# Altium schematic symbol library Tx_board.SchLib: 57 symbols (part 1 of 3)
Pins are listed as number, name and electrical type; pins without a type are passive.

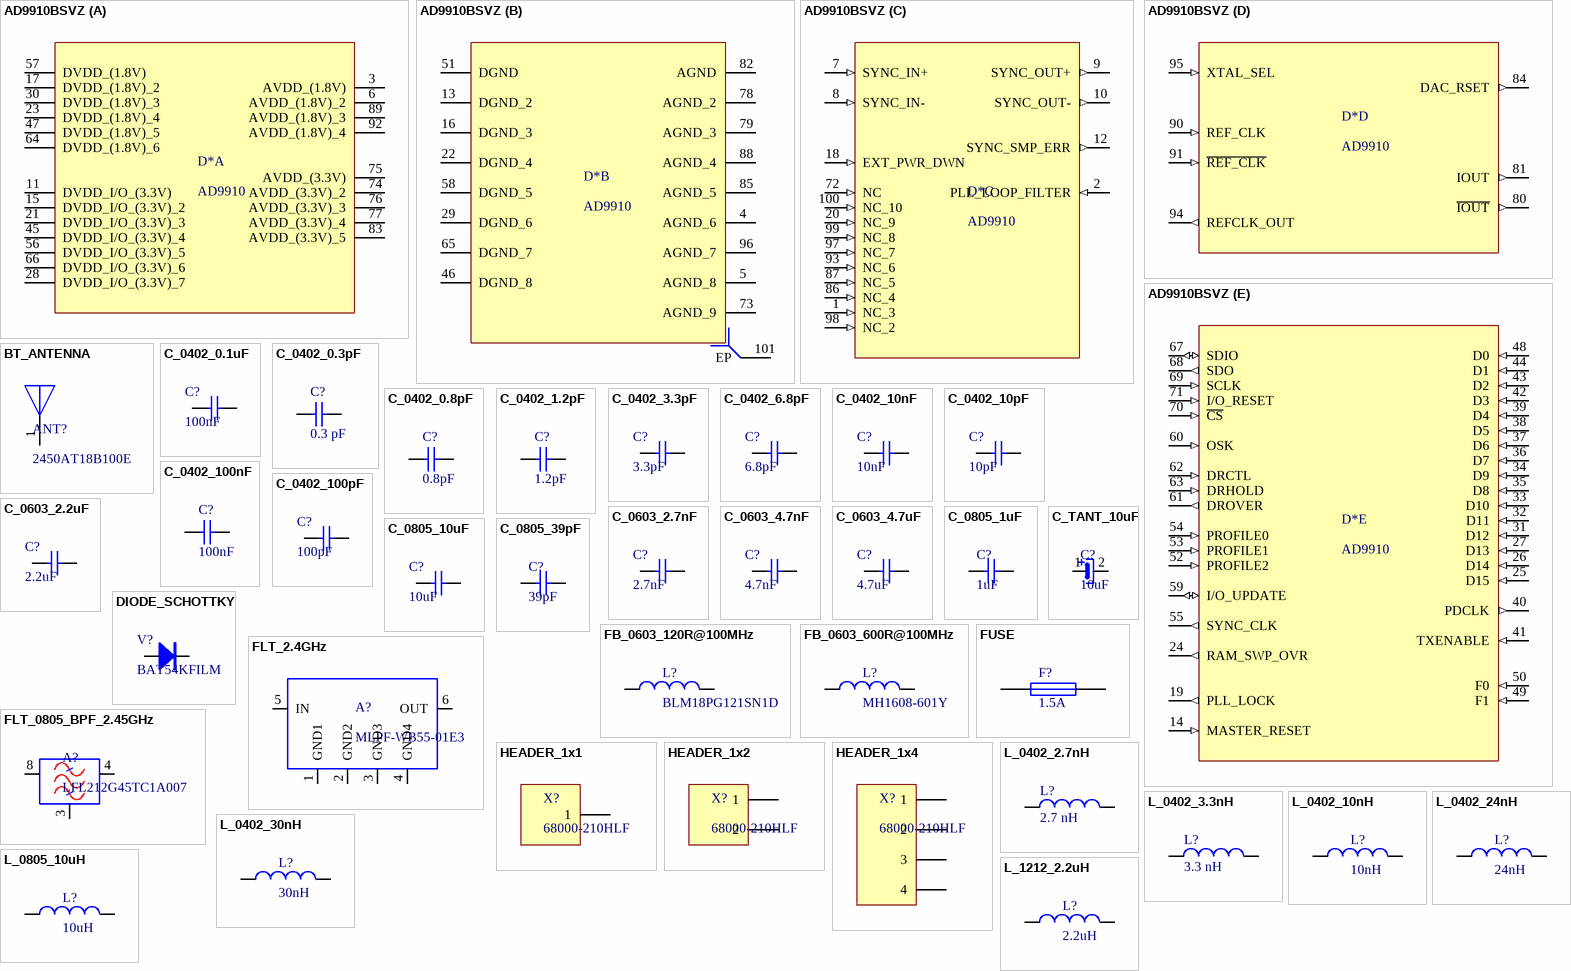
[diagram p0: symbols AD9910BSVZ to L_1212_2.2uH]

## AD9910BSVZ
designator D*, comment AD9910
ANALOG DEVICES - AD9910BSVZ - Direct Digital Synthesizer, 1 GSPS. 14 Bit, 3.3 V, TQFP-100; Min Supply Voltage: 1.71V; Max Supply Voltage: 1.89V; Number of Converters: 1; Resolution: 14b; Frequency: 1GHz; Max Supply Current: 110mA; Operating Supply Voltage: 1.8V; Nominal Supply Current: 29mA; Conversion Rate: 1000000KS/s; Supplier 1: Digi-Key; Supplier Part Number 1: AD9910BSVZ-ND; Manufacturer: Analog Devices; Manufacturer Part Number: AD9910BSVZ; RoHS: Yes; Category: Clock and Timing; Stock 1: 98; Pricing 1: 1=61.45000, 10=57.72200, 25=55.86000 (USD); Mount: Surface Mount; Case/Package: TQFP; Number of Pins: 100; Contact Plating: Tin,Matte; Min Operating Temperature: -40°C; Max Operating Temperature: 85°C; Package Quantity: 90; Packaging: Tray; Number of D/A Converters: 1; Number of Outputs: 1; Length: 14mm; Height: 1mm; Width: 14mm; Lead Free: Contains Lead; REACH SVHC: No SVHC; ComponentLink1URL: https://datasheet.ciiva.com/26828/ad9910bsvz-26828234.pdf?src-supplier=IIIC; ComponentLink1Description: https://datasheet.ciiva.com/26828/ad9910bsvz-26828234.pdf?src-supplier=IIIC; ComponentLink2URL: https://datasheet.ciiva.com/3177/ad9910-3177350.pdf?src-supplier=Avnet; ComponentLink2Description: https://datasheet.ciiva.com/3177/ad9910-3177350.pdf?src-supplier=Avnet; ComponentLink3URL: https://datasheet.ciiva.com/1491/1701030-1491416.pdf?src-supplier=Element14; ComponentLink3Description: https://datasheet.ciiva.com/1491/1701030-1491416.pdf?src-supplier=Element14; ComponentLink4URL: https://datasheet.ciiva.com/1699/ad9910-1699641.pdf?src-supplier=Digi-Key; ComponentLink4Description: https://datasheet.ciiva.com/1699/ad9910-1699641.pdf?src-supplier=Digi-Key; ComponentLink5URL: https://datasheet.ciiva.com/22621/1701030-22621628.pdf?src-supplier=Element14; ComponentLink5Description: https://datasheet.ciiva.com/22621/1701030-22621628.pdf?src-supplier=Element14
footprint TSQFP50P1600X1600X105_HS-101N (TSQFP, 100-Leads, Body 14.00x14.00mm, Pitch 0.50mm, Thermal Pad 5.00x5.00mm, IPC Medium Density)
part A pins: 3 AVDD_(1.8V) (power), 6 AVDD_(1.8V)_2 (power), 11 DVDD_I/O_(3.3V) (power), 15 DVDD_I/O_(3.3V)_2 (power), 17 DVDD_(1.8V)_2 (power), 21 DVDD_I/O_(3.3V)_3 (power), 23 DVDD_(1.8V)_4 (power), 28 DVDD_I/O_(3.3V)_7 (power), 30 DVDD_(1.8V)_3 (power), 45 DVDD_I/O_(3.3V)_4 (power), 47 DVDD_(1.8V)_5 (power), 56 DVDD_I/O_(3.3V)_5 (power), 57 DVDD_(1.8V) (power), 64 DVDD_(1.8V)_6 (power), 66 DVDD_I/O_(3.3V)_6 (power), 74 AVDD_(3.3V)_2 (power), 75 AVDD_(3.3V) (power), 76 AVDD_(3.3V)_3 (power), 77 AVDD_(3.3V)_4 (power), 83 AVDD_(3.3V)_5 (power), 89 AVDD_(1.8V)_3 (power), 92 AVDD_(1.8V)_4 (power)
part B pins: 4 AGND_6, 5 AGND_8, 13 DGND_2, 16 DGND_3, 22 DGND_4, 29 DGND_6, 46 DGND_8, 51 DGND, 58 DGND_5, 65 DGND_7, 73 AGND_9, 78 AGND_2, 79 AGND_3, 82 AGND, 85 AGND_5, 88 AGND_4, 96 AGND_7, 101 EP
part C pins: 1 NC_3 (in), 2 PLL_LOOP_FILTER (in), 7 SYNC_IN+ (in), 8 SYNC_IN- (in), 9 SYNC_OUT+ (out), 10 SYNC_OUT- (out), 12 SYNC_SMP_ERR (out), 18 EXT_PWR_DWN (in), 20 NC_9 (in), 72 NC (in), 86 NC_4 (in), 87 NC_5 (in), 93 NC_6 (in), 97 NC_7 (in), 98 NC_2 (in), 99 NC_8 (in), 100 NC_10 (in)
part D pins: 80 ~{IOUT} (out), 81 IOUT (out), 84 DAC_RSET (out), 90 REF_CLK (in), 91 ~{REF_CLK} (in), 94 REFCLK_OUT (out), 95 XTAL_SEL (in)
part E pins: 14 MASTER_RESET (in), 19 PLL_LOCK (out), 24 RAM_SWP_OVR (out), 25 D15 (in), 26 D14 (in), 27 D13 (in), 31 D12 (in), 32 D11 (in), 33 D10 (in), 34 D9 (in), 35 D8 (in), 36 D7 (in), 37 D6 (in), 38 D5 (in), 39 D4 (in), 40 PDCLK (out), 41 TXENABLE (in), 42 D3 (in), 43 D2 (in), 44 D1 (in), 48 D0 (in), 49 F1 (in), 50 F0 (in), 52 PROFILE2 (in), 53 PROFILE1 (in), 54 PROFILE0 (in), 55 SYNC_CLK (out), 59 I/O_UPDATE (io), 60 OSK (in), 61 DROVER (out), 62 DRCTL (in), 63 DRHOLD (in), 67 SDIO (io), 68 SDO (out), 69 SCLK (in), 70 ~{CS} (in), 71 I/O_RESET (in)

## BT_ANTENNA
designator ANT?, comment 2450AT18B100E
JOHANSON TECHNOLOGY - 2450AT18B100E - ANTENNA, CERAMIC, 2.45GHZ; Number of Bands: 1; Return Loss: -9.5dB; Max Power Dissipation: 3W; Max Frequency: 2.5GHz; Gain: -0.5dB; Impedance: 50R; Bandwidth: 100MHz; Supplier 1: Digi-Key; Supplier Part Number 1: 712-1006-1-ND; Manufacturer: Johanson; Manufacturer Part Number: 2450AT18B100E; RoHS: Yes; Category: RF Antennas; Stock 1: 147317; Pricing 1: 1=0.56000, 10=0.49500, 25=0.46520, 100=0.37950, 250=0.35252, 500=0.30000, 1000=0.24000 (USD); Mount: Surface Mount; Case/Package: CSMD; Contact Plating: Tin; Min Operating Temperature: -40°C; Max Operating Temperature: 85°C; Termination: Solder; Frequency: 2.45GHz; Package Quantity: 1; Packaging: Tape and Reel; Power Rating: 3W; Length: 3.2mm; Height: 0.051inch; Width: 1.6mm; Radiation Hardening: No; REACH SVHC: No SVHC; ComponentLink1URL: https://datasheet.ciiva.com/24025/antenna-2450at18b100-242422-24025839.pdf?src-supplier=Mouser; ComponentLink1Description: https://datasheet.ciiva.com/24025/antenna-2450at18b100-242422-24025839.pdf?src-supplier=Mouser; ComponentLink2URL: https://datasheet.ciiva.com/1124/1318299-1124918.pdf?src-supplier=Element14; ComponentLink2Description: https://datasheet.ciiva.com/1124/1318299-1124918.pdf?src-supplier=Element14
footprint ANT_2450AT18B100E
pins: 1

## C_0402_0.1uF
designator C?, comment 100nF
CAP CERAMIC, 0.1UF, 16V, X7R, 0402; Product Range:TDK - CGA Series; Capacitance:0.1µF; Capacitance Tolerance:± 10%; Dielectric Characteristic:X7R; Voltage Rating:16V; Ceramic Capacitor Case:0402 ^1005 Metric]; Packaging:Cut Tape; Manufacturer: TDK; Manufacturer Part Number: CGA2B1X7R1C104K050BC; Supplier 1: Digi-Key; Supplier Part Number 1: 445-5613-1-ND; RoHS: Yes; Category: Ceramic Capacitors; Stock 1: 3203627; Pricing 1: 1=0.10000, 10=0.07000, 100=0.03140, 500=0.02242, 1000=0.01761, 2500=0.01601, 5000=0.01473 (USD); Mount: Surface Mount; Case/Package: 0402; Weight: 2.3E-05oz; Case Code (Imperial): 0402; Case Code (Metric): 1005; Min Operating Temperature: -55°C; Max Operating Temperature: 125°C; Capacitance: 100nF; Tolerance: 10%; Voltage Rating: 16V; Voltage Rating (DC): 16V; Packaging: Tape and Reel; Termination: SMD/SMT; Dielectric: X7R; Package Quantity: 1; Composition: Ceramic; Length: 1mm; Height: 0.5mm; Depth: 0.5mm; Width: 0.5mm; Thickness: 0.022inch; Ratings: AEC-Q200; Lead Free: Lead Free; REACH SVHC: No SVHC; ComponentLink1URL: https://datasheet.ciiva.com/22725/1735392-22725616.pdf?src-supplier=Element14; ComponentLink1Description: https://datasheet.ciiva.com/22725/1735392-22725616.pdf?src-supplier=Element14; ComponentLink2URL: https://datasheet.ciiva.com/24219/cga2b1x7r1c104k050bc-265778-24219872.pdf?src-supplier=Mouser; ComponentLink2Description: https://datasheet.ciiva.com/24219/cga2b1x7r1c104k050bc-265778-24219872.pdf?src-supplier=Mouser; ComponentLink3URL: https://datasheet.ciiva.com/22694/1807242-22694214.pdf?src-supplier=Element14; ComponentLink3Description: https://datasheet.ciiva.com/22694/1807242-22694214.pdf?src-supplier=Element14; ComponentLink4URL: https://datasheet.ciiva.com/7975/1807242-7975212.pdf?src-supplier=Element14; ComponentLink4Description: https://datasheet.ciiva.com/7975/1807242-7975212.pdf?src-supplier=Element14; ComponentLink5URL: https://datasheet.ciiva.com/23803/1936565-23803062.pdf?src-supplier=Newark; ComponentLink5Description: https://datasheet.ciiva.com/23803/1936565-23803062.pdf?src-supplier=Newark
footprint 0402_CAP_NPOL
pins: 1, 2

## C_0402_0.3pF
designator C?, comment 0.3 pF
Cap Ceramic 0.3pF 50V C0G 0.1pF SMD 0402 125°C Paper T/R; Mnf. Part Number: CQ0402BRNPO9BNR30; Manufacturer: Yageo; Voltage rating: 50 V; Value: 0.3 pF; Supplier Part Number: 603-CQ402BRNPO9BNR30; ComponentLink1Description: Mouser; ComponentLink1URL: https://hr.mouser.com/ProductDetail/Yageo/CQ0402BRNPO9BNR30?qs=%2Fha2pyFaduhMyJfUnLLUIE7Z%2FjVR985HRou66fDk93aac2OAXX1OK4jnSrOguDA4; Price x1: 0.108; Price x10: 0.053; Supplier 1: Mouser; Supplier Part Number 1: 603-CQ402BRNPO9BNR30; Manufacturer Part Number: CQ0402BRNPO9BNR30; RoHS: No; Category: Ceramic Capacitors; Stock 1: 21916; Pricing 1: 1=0.12000, 10=0.05900, 100=0.02700, 1000=0.02200, 2500=0.01600, 10000=0.01500 (USD)
footprint 0402_CAP_NPOL
pins: 1, 2

## C_0402_0.8pF
designator C?, comment 0.8pF
Surface Mount Ceramic Multilayer Capacitor 0.8pF 0.1pF C0G 50V 0402 Paper T/R; Mnf. Part Number: CQ0402BRNPO9BNR80; Manufacturer: Yageo; Voltage rating: 50 V; Value: 0.8 pF; Supplier Part Number: 603-CQ402BRNPO9BNR80; ComponentLink1Description: Mouser; ComponentLink1URL: https://hr.mouser.com/ProductDetail/Yageo/CQ0402BRNPO9BNR80?qs=sGAEpiMZZMs0AnBnWHyRQBrr%252B8G9ikWkYxalUDoDoAJ7CZm5lKoF4A%3D%3D; Price x1: 0.099; Price x10: 0.053; Supplier 1: Mouser; Supplier Part Number 1: 603-CQ402BRNPO9BNR80; Manufacturer Part Number: CQ0402BRNPO9BNR80; RoHS: Yes; Category: Ceramic Capacitors; Stock 1: 11940; Pricing 1: 1=0.11000, 10=0.05900, 100=0.02700, 1000=0.02200, 2500=0.01600, 10000=0.01500 (USD); Case/Package: 0402; Weight: 2.3E-05oz; Case Code (Imperial): 0402; Case Code (Metric): 1005; Min Operating Temperature: -55°C; Max Operating Temperature: 125°C; Dielectric: C0G; Packaging: Tape and Reel; Voltage Rating (DC): 50V; Package Quantity: 10000; Capacitance: 0.8pF; ComponentLink2URL: http://www.mouser.com/ds/2/447/UPY-High%20Q_NP0_16V-to-250V_11-533944.pdf?src-supplier=Mouser; ComponentLink2Description: http://www.mouser.com/ds/2/447/UPY-High%20Q_NP0_16V-to-250V_11-533944.pdf?src-supplier=Mouser; ComponentLink3URL: http://www.yageo.com/documents/recent/UPY-High%20Q_NP0_16V-to-250V_15.pdf?src-supplier=Digi-Key; ComponentLink3Description: http://www.yageo.com/documents/recent/UPY-High%20Q_NP0_16V-to-250V_15.pdf?src-supplier=Digi-Key
footprint 0402_CAP_NPOL
pins: 1, 2

## C_0402_1.2pF
designator C?, comment 1.2pF
JOHANSON TECHNOLOGY         500R07S1R2BV4T            MLCC CAPACITOR, 1.2PF, 50V, C0G/NP0, 0.1PF, 0402, FULL REEL; Dielectric Material: Ceramic; Dielectric: C0G; Voltage rating: 50 V; Value: 1.2 pF; Mnf. Part Number: 500R07S1R2BV4T; Supplier Part Number: 609-500R07S1R2BV4T; ComponentLink1Description: Mouser; ComponentLink1URL: https://hr.mouser.com/ProductDetail/Johanson-Technology/500R07S1R2BV4T?qs=%2Fha2pyFaduitFglPf7QFEpalH570NwRZK1K6jDyjociy7EGjAidtOg%3D%3D; Price x1: 0.171; Price x10: 0.077; Supplier 1: Mouser; Supplier Part Number 1: 609-500R07S1R2BV4T; Manufacturer: Johanson; Manufacturer Part Number: 500R07S1R2BV4T; RoHS: Yes; Category: Ceramic Capacitors; Stock 1: 3091; Pricing 1: 1=0.19000, 10=0.08500, 100=0.04900, 1000=0.04000, 5000=0.03500, 10000=0.02700 (USD); Case/Package: 0402; Number of Pins: 2; Contact Plating: Tin,Matte; Case Code (Imperial): 0402; Case Code (Metric): 1005; Min Operating Temperature: -55°C; Max Operating Temperature: 125°C; Voltage Rating (DC): 50V; Packaging: Tape and Reel; Capacitance: 1.2pF; Termination: SMD/SMT; Package Quantity: 10000; Length: 1.02mm; Height: 0.64mm; Depth: 0.51mm; Width: 0.02inch; Thickness: 0.024inch; Radiation Hardening: No; REACH SVHC: Unknown; ComponentLink2URL: https://datasheet.ciiva.com/1461/1731432-1461669.pdf?src-supplier=Element14; ComponentLink2Description: https://datasheet.ciiva.com/1461/1731432-1461669.pdf?src-supplier=Element14; ComponentLink3URL: https://datasheet.ciiva.com/22697/1731432-22697547.pdf?src-supplier=Element14; ComponentLink3Description: https://datasheet.ciiva.com/22697/1731432-22697547.pdf?src-supplier=Element14; ComponentLink4URL: https://datasheet.ciiva.com/28495/1932950-28495023.pdf?src-supplier=Element14; ComponentLink4Description: https://datasheet.ciiva.com/28495/1932950-28495023.pdf?src-supplier=Element14
footprint 0402_CAP_NPOL
pins: 1, 2

## C_0402_3.3pF
designator C?, comment 3.3pF
KEMET   C0402C339C5GACTU   Multilayer Ceramic Capacitor, C Series, 3.3 pF,  0.25pF, C0G / NP0, 50 V, 0402 [1005 Metric]; Voltage Rating: 50V; Dissipation Factor: 0.1%; Temperature Coefficient: 30ppm/°C; Tolerance: 5%; Supplier 1: Digi-Key; Supplier Part Number 1: 399-1007-1-ND; Manufacturer: KEMET; Manufacturer Part Number: C0402C339C5GACTU; RoHS: Yes; Category: Ceramic Capacitors; Stock 1: 134170; Pricing 1: 1=0.10000, 10=0.07000, 100=0.03100, 500=0.02214, 1000=0.01739, 2500=0.01581, 5000=0.01455 (USD); Mount: Surface Mount,PCB; Case/Package: 0402; Number of Pins: 2; Case Code (Metric): 1005; Case Code (Imperial): 0402; Dielectric Material: Ceramic; Min Operating Temperature: -55°C; Max Operating Temperature: 125°C; Package Quantity: 1; Capacitance: 3.3pF; Packaging: Tape and Reel; Voltage Rating (DC): 50V; Dielectric: C0G; Termination: SMD/SMT; Voltage: 50V; Length: 1mm; Height: 0.5mm; Width: 0.02inch; Thickness: 0.022inch; Lead Pitch: 0.3mm; Depth: 0.5mm; Radiation Hardening: No; REACH SVHC: No SVHC; Lead Free: Lead Free; ComponentLink1URL: https://datasheet.ciiva.com/144/docfinderpartnumber-c0402c339c5gactu-144736.pdf?src-supplier=Digi-Key; ComponentLink1Description: https://datasheet.ciiva.com/144/docfinderpartnumber-c0402c339c5gactu-144736.pdf?src-supplier=Digi-Key; ComponentLink2URL: https://datasheet.ciiva.com/26893/getdatasheetpartid-461459-26893979.pdf?src-supplier=Verical; ComponentLink2Description: https://datasheet.ciiva.com/26893/getdatasheetpartid-461459-26893979.pdf?src-supplier=Verical; ComponentLink3URL: https://datasheet.ciiva.com/11786/0900766b8116eaf8-11786284.pdf?src-supplier=RSComponents; ComponentLink3Description: https://datasheet.ciiva.com/11786/0900766b8116eaf8-11786284.pdf?src-supplier=RSComponents; ComponentLink4URL: https://datasheet.ciiva.com/7747/40889-7747531.pdf?src-supplier=Element14; ComponentLink4Description: https://datasheet.ciiva.com/7747/40889-7747531.pdf?src-supplier=Element14; ComponentLink5URL: https://datasheet.ciiva.com/14598/70095383-14598380.pdf?src-supplier=Allied+Electronics; ComponentLink5Description: https://datasheet.ciiva.com/14598/70095383-14598380.pdf?src-supplier=Allied+Electronics; ComponentLink6URL: https://datasheet.ciiva.com/22677/1372242-22677021.pdf?src-supplier=Element14; ComponentLink6Description: https://datasheet.ciiva.com/22677/1372242-22677021.pdf?src-supplier=Element14; ComponentLink7URL: https://datasheet.ciiva.com/5413/kem-c1003-c0g-smd-5413903.pdf?src-supplier=Mouser; ComponentLink7Description: https://datasheet.ciiva.com/5413/kem-c1003-c0g-smd-5413903.pdf?src-supplier=Mouser; ComponentLink8URL: https://datasheet.ciiva.com/14600/70095383-14600607.pdf?src-supplier=Allied+Electronics; ComponentLink8Description: https://datasheet.ciiva.com/14600/70095383-14600607.pdf?src-supplier=Allied+Electronics; ComponentLink9URL: https://datasheet.ciiva.com/22693/40889-22693919.pdf?src-supplier=Element14; ComponentLink9Description: https://datasheet.ciiva.com/22693/40889-22693919.pdf?src-supplier=Element14
footprint 0402_CAP_NPOL
pins: 1, 2

## C_0402_6.8pF
designator C?, comment 6.8pF
Multilayer Ceramic Capacitors MLCC - SMD/SMT 0402 6.8pF 50volts C0G +/-0.5pF; Manufacturer: Murata; Manufacturer Part Number: GRM1555C1H6R8DA01D; Voltage Rating: 50V; Supplier 1: Digi-Key; Supplier Part Number 1: 490-5950-1-ND; RoHS: Yes; Category: Ceramic Capacitors; Stock 1: 1379879; Pricing 1: 1=0.10000, 10=0.03900, 100=0.01740, 500=0.01240, 1000=0.00974, 2500=0.00886, 5000=0.00815 (USD); Mount: Surface Mount; Case/Package: 0402; Case Code (Metric): 1005; Case Code (Imperial): 0402; Material: Ceramic; Min Operating Temperature: -55°C; Max Operating Temperature: 125°C; Package Quantity: 1; Capacitance: 6.8pF; Packaging: Tape and Reel; Voltage Rating (DC): 50V; Dielectric: C0G; Termination: SMD/SMT; Voltage: 50V; Length: 1mm; Height: 0.5mm; Width: 0.02inch; Thickness: 0.022inch; Depth: 0.5mm; Radiation Hardening: No; REACH SVHC: No SVHC; Lead Free: Lead Free; ComponentLink1URL: https://datasheet.ciiva.com/6271/grm1555c1h6r8da01-01-6271041.pdf?src-supplier=Digi-Key; ComponentLink1Description: https://datasheet.ciiva.com/6271/grm1555c1h6r8da01-01-6271041.pdf?src-supplier=Digi-Key; ComponentLink2URL: https://datasheet.ciiva.com/11611/product-11611597.pdf?src-supplier=Avnet; ComponentLink2Description: https://datasheet.ciiva.com/11611/product-11611597.pdf?src-supplier=Avnet; ComponentLink3URL: https://datasheet.ciiva.com/18184/getdatasheetpartid-507743-18184478.pdf?src-supplier=Verical; ComponentLink3Description: https://datasheet.ciiva.com/18184/getdatasheetpartid-507743-18184478.pdf?src-supplier=Verical; ComponentLink4URL: https://datasheet.ciiva.com/29199/453990-da-01-en-vs-kondensator-0402-29199874.pdf?src-supplier=Conrad; ComponentLink4Description: https://datasheet.ciiva.com/29199/453990-da-01-en-vs-kondensator-0402-29199874.pdf?src-supplier=Conrad; ComponentLink5URL: https://datasheet.ciiva.com/6271/partnumbering-e-01-6271045.pdf?src-supplier=Digi-Key; ComponentLink5Description: https://datasheet.ciiva.com/6271/partnumbering-e-01-6271045.pdf?src-supplier=Digi-Key; ComponentLink6URL: https://datasheet.ciiva.com/6271/partnumbering-e-01-6271037.pdf?src-supplier=Digi-Key; ComponentLink6Description: https://datasheet.ciiva.com/6271/partnumbering-e-01-6271037.pdf?src-supplier=Digi-Key
footprint 0402_CAP_NPOL
pins: 1, 2

## C_0402_10nF
designator C?, comment 10nF
Multilayer Ceramic Capacitors MLCC Surface Mount 0402 0.01uF 50 Volts X7R 10%; Manufacturer: Murata; Manufacturer Part Number: GRM155R71H103KA88D; Voltage Rating: 50V; Voltage: 25V; Supplier 1: Digi-Key; Supplier Part Number 1: 490-4516-1-ND; RoHS: Yes; Category: Ceramic Capacitors; Stock 1: 4379436; Pricing 1: 1=0.10000, 10=0.04200, 100=0.01860, 500=0.01328, 1000=0.01044, 2500=0.00949, 5000=0.00873 (USD); Mount: Surface Mount; Case/Package: 0402; Number of Pins: 2; Case Code (Metric): 1005; Case Code (Imperial): 0402; Material: Ceramic; Min Operating Temperature: -55°C; Max Operating Temperature: 125°C; Capacitance: 10nF; Tolerance: 10%; Dielectric: X7R; Packaging: Tape and Reel; Package Quantity: 1; Termination: SMD/SMT; Voltage Rating (DC): 50V; Length: 1mm; Height: 0.5mm; Width: 0.02inch; Thickness: 0.022inch; Depth: 0.5mm; Radiation Hardening: No; REACH SVHC: No SVHC; Lead Free: Lead Free; ComponentLink1URL: https://datasheet.ciiva.com/129/product-129810.pdf?src-supplier=Digi-Key; ComponentLink1Description: https://datasheet.ciiva.com/129/product-129810.pdf?src-supplier=Digi-Key; ComponentLink2URL: https://datasheet.ciiva.com/19476/1856433-19476546.pdf?src-supplier=Jameco; ComponentLink2Description: https://datasheet.ciiva.com/19476/1856433-19476546.pdf?src-supplier=Jameco; ComponentLink3URL: https://datasheet.ciiva.com/11786/0900766b80ef921d-11786340.pdf?src-supplier=RSComponents; ComponentLink3Description: https://datasheet.ciiva.com/11786/0900766b80ef921d-11786340.pdf?src-supplier=RSComponents; ComponentLink4URL: https://datasheet.ciiva.com/18100/getdatasheetpartid-27434-18100660.pdf?src-supplier=Verical; ComponentLink4Description: https://datasheet.ciiva.com/18100/getdatasheetpartid-27434-18100660.pdf?src-supplier=Verical; ComponentLink5URL: https://datasheet.ciiva.com/22698/1747449-22698420.pdf?src-supplier=Element14; ComponentLink5Description: https://datasheet.ciiva.com/22698/1747449-22698420.pdf?src-supplier=Element14; ComponentLink6URL: https://datasheet.ciiva.com/29199/454225-da-01-en-vs-kondensator-0402-29199740.pdf?src-supplier=Conrad; ComponentLink6Description: https://datasheet.ciiva.com/29199/454225-da-01-en-vs-kondensator-0402-29199740.pdf?src-supplier=Conrad; ComponentLink7URL: https://datasheet.ciiva.com/129/grm155r71h103ka88-01-129811.pdf?src-supplier=Digi-Key; ComponentLink7Description: https://datasheet.ciiva.com/129/grm155r71h103ka88-01-129811.pdf?src-supplier=Digi-Key; ComponentLink8URL: https://datasheet.ciiva.com/129/grm155r71h103ka88-01-129812.pdf?src-supplier=Digi-Key; ComponentLink8Description: https://datasheet.ciiva.com/129/grm155r71h103ka88-01-129812.pdf?src-supplier=Digi-Key; ComponentLink9URL: https://datasheet.ciiva.com/16495/product-16495290.pdf?src-supplier=Future+Electronics; ComponentLink9Description: https://datasheet.ciiva.com/16495/product-16495290.pdf?src-supplier=Future+Electronics; ComponentLink10URL: https://datasheet.ciiva.com/5410/product-5410990.pdf?src-supplier=Mouser; ComponentLink10Description: https://datasheet.ciiva.com/5410/product-5410990.pdf?src-supplier=Mouser
footprint 0402_CAP_NPOL
pins: 1, 2

## C_0402_10pF
designator C?, comment 10pF
MURATA - GCM1555C1H100JA16D - CAP, 10PF, 50V, 5%, C0G/NP0, 0402; Dielectric: C0G; Supplier 1: Digi-Key; Supplier Part Number 1: 490-10668-1-ND; Manufacturer: Murata; Manufacturer Part Number: GCM1555C1H100JA16D; RoHS: Yes; Category: Ceramic Capacitors; Stock 1: 255953; Pricing 1: 1=0.10000, 10=0.06200, 100=0.02770, 500=0.01978, 1000=0.01553, 2500=0.01412, 5000=0.01299 (USD); Mount: Surface Mount; Case/Package: 0402; Weight: 0.000212oz; Case Code (Metric): 1005; Case Code (Imperial): 0402; Min Operating Temperature: -55°C; Max Operating Temperature: 125°C; Voltage Rating: 50V; Capacitance: 10pF; Termination: SMD/SMT; Package Quantity: 10000; Tolerance: 5%; Packaging: Tape and Reel; Voltage Rating (DC): 50V; Length: 0.039inch; Height: 0.5mm; Width: 0.02inch; Thickness: 0.022inch; Ratings: AEC-Q200; REACH SVHC: No SVHC; Lead Free: Lead Free; ComponentLink1URL: http://www.farnell.com/datasheets/1955633.pdf?src-supplier=Farnell; ComponentLink1Description: http://www.farnell.com/datasheets/1955633.pdf?src-supplier=Farnell; ComponentLink2URL: http://www.mouser.com/ds/2/281/c03e-806517.pdf?src-supplier=Mouser; ComponentLink2Description: http://www.mouser.com/ds/2/281/c03e-806517.pdf?src-supplier=Mouser; ComponentLink3URL: http://psearch.en.murata.com/capacitor/product/GCM1555C1H100JA16%23.pdf?src-supplier=Avnet; ComponentLink3Description: http://psearch.en.murata.com/capacitor/product/GCM1555C1H100JA16%23.pdf?src-supplier=Avnet; ComponentLink4URL: http://search.murata.co.jp/Ceramy/image/img/A01X/partnumbering_e_02.pdf?src-supplier=Digi-Key; ComponentLink4Description: http://search.murata.co.jp/Ceramy/image/img/A01X/partnumbering_e_02.pdf?src-supplier=Digi-Key; ComponentLink5URL: http://www.farnell.com/datasheets/1955633.pdf?src-supplier=Element14; ComponentLink5Description: http://www.farnell.com/datasheets/1955633.pdf?src-supplier=Element14
footprint 0402_CAP_NPOL
pins: 1, 2

## C_0402_100nF
designator C?, comment 100nF
CAP CERAMIC, 0.1UF, 16V, X7R, 0402; Product Range:TDK - CGA Series; Capacitance:0.1µF; Capacitance Tolerance:± 10%; Dielectric Characteristic:X7R; Voltage Rating:16V; Ceramic Capacitor Case:0402 ^1005 Metric]; Packaging:Cut Tape; Mnf. Part Number: CGA2B1X7R1C104K050BC; Manufacturer: TDK; Value: 100 nF; Supplier Part Number: 810-CGA2B1X7R1C104K; ComponentLink1Description: Mouser; ComponentLink1URL: https://hr.mouser.com/ProductDetail/TDK/CGA2B1X7R1C104K050BC?qs=sGAEpiMZZMs0AnBnWHyRQEWjzA2rN6H9zTwYB35DCmM%3D; Price x1: 0.09; Price x10: 0.035; Supplier 1: Digi-Key; Supplier Part Number 1: 445-5613-1-ND; Manufacturer Part Number: CGA2B1X7R1C104K050BC; RoHS: Yes; Category: Ceramic Capacitors; Stock 1: 3203627; Pricing 1: 1=0.10000, 10=0.07000, 100=0.03140, 500=0.02242, 1000=0.01761, 2500=0.01601, 5000=0.01473 (USD); Mount: Surface Mount; Case/Package: 0402; Weight: 2.3E-05oz; Case Code (Imperial): 0402; Case Code (Metric): 1005; Min Operating Temperature: -55°C; Max Operating Temperature: 125°C; Capacitance: 100nF; Tolerance: 10%; Voltage Rating (DC): 16V; Packaging: Tape and Reel; Termination: SMD/SMT; Dielectric: X7R; Package Quantity: 1; Composition: Ceramic; Length: 1mm; Height: 0.5mm; Depth: 0.5mm; Width: 0.5mm; Thickness: 0.022inch; Ratings: AEC-Q200; Lead Free: Lead Free; REACH SVHC: No SVHC; ComponentLink2URL: https://datasheet.ciiva.com/22725/1735392-22725616.pdf?src-supplier=Element14; ComponentLink2Description: https://datasheet.ciiva.com/22725/1735392-22725616.pdf?src-supplier=Element14; ComponentLink3URL: https://datasheet.ciiva.com/24219/cga2b1x7r1c104k050bc-265778-24219872.pdf?src-supplier=Mouser; ComponentLink3Description: https://datasheet.ciiva.com/24219/cga2b1x7r1c104k050bc-265778-24219872.pdf?src-supplier=Mouser; ComponentLink4URL: https://datasheet.ciiva.com/22694/1807242-22694214.pdf?src-supplier=Element14; ComponentLink4Description: https://datasheet.ciiva.com/22694/1807242-22694214.pdf?src-supplier=Element14; ComponentLink5URL: https://datasheet.ciiva.com/7975/1807242-7975212.pdf?src-supplier=Element14; ComponentLink5Description: https://datasheet.ciiva.com/7975/1807242-7975212.pdf?src-supplier=Element14; ComponentLink6URL: https://datasheet.ciiva.com/23803/1936565-23803062.pdf?src-supplier=Newark; ComponentLink6Description: https://datasheet.ciiva.com/23803/1936565-23803062.pdf?src-supplier=Newark
footprint 0402_CAP_NPOL
pins: 1, 2

## C_0402_100pF
designator C?, comment 100pF
WURTH ELEKTRONIK - 885012005061 - CAP, 100PF, 50V, 5%, C0G/NP0, 0402; Manufacturer: Wurth Electronics; Supplier 1: Digi-Key; Supplier Part Number 1: 732-7475-1-ND; Manufacturer Part Number: 885012005061; RoHS: Yes; Category: Ceramic Capacitors; Stock 1: 15536; Pricing 1: 1=0.10000, 10=0.01700, 100=0.01490, 500=0.01316 (USD); Mount: Surface Mount; Case/Package: 0402; Case Code (Metric): 1005; Case Code (Imperial): 0402; Min Operating Temperature: -55°C; Max Operating Temperature: 125°C; Packaging: Cut Tape; Capacitance: 100pF; Voltage Rating: 50V; Tolerance: 5%; Length: 0.039inch; Width: 0.02inch; Thickness: 0.022inch; ComponentLink1URL: http://www.farnell.com/datasheets/2031648.pdf?src-supplier=Farnell; ComponentLink1Description: http://www.farnell.com/datasheets/2031648.pdf?src-supplier=Farnell; ComponentLink2URL: https://www.mouser.com/ds/2/445/885012005061-554900.pdf?src-supplier=Mouser; ComponentLink2Description: https://www.mouser.com/ds/2/445/885012005061-554900.pdf?src-supplier=Mouser; ComponentLink3URL: https://katalog.we-online.de/pbs/datasheet/885012005061.pdf?src-supplier=Digi-Key; ComponentLink3Description: https://katalog.we-online.de/pbs/datasheet/885012005061.pdf?src-supplier=Digi-Key; ComponentLink4URL: http://www.farnell.com/datasheets/2031648.pdf?src-supplier=Newark; ComponentLink4Description: http://www.farnell.com/datasheets/2031648.pdf?src-supplier=Newark
footprint 0402_CAP_NPOL
pins: 1, 2

## C_0603_2.2uF
designator C?, comment 2.2uF
Cap Ceramic 2.2uF 6.3V X5R 20% SMD 0603 85°C Paper T/R; Manufacturer: KEMET; Manufacturer Part Number: C0603C225M9PAC7867; Supplier 1: Digi-Key; Supplier Part Number 1: 399-13137-1-ND; RoHS: Yes; Category: Ceramic Capacitors; Stock 1: 13262; Pricing 1: 1=0.21000, 10=0.14600, 100=0.06880, 500=0.04824, 1000=0.03994 (USD); Mount: Surface Mount; Case/Package: 0603; Dielectric Material: Ceramic; Case Code (Metric): 1608; Case Code (Imperial): 0603; Min Operating Temperature: -55°C; Max Operating Temperature: 85°C; Voltage Rating (DC): 6.3V; Packaging: Tape and Reel; Voltage Rating: 6.3V; Capacitance: 2.2uF; Tolerance: 20%; Dielectric: X5R; Length: 0.063inch; Height: 0.8mm; Width: 0.031inch; Thickness: 0.034inch; Depth: 0.8mm; Radiation Hardening: No; Lead Free: Lead Free; ComponentLink1URL: https://api.kemet.com/component-edge/download/datasheet/C0603C225M9PACTU.pdf?src-supplier=Digi-Key; ComponentLink1Description: https://api.kemet.com/component-edge/download/datasheet/C0603C225M9PACTU.pdf?src-supplier=Digi-Key; ComponentLink2URL: http://capacitoredge.kemet.com/capedge2/DataSheet?pn=C0603C225M9PAC7867&src-supplier=Avnet; ComponentLink2Description: http://capacitoredge.kemet.com/capedge2/DataSheet?pn=C0603C225M9PAC7867&src-supplier=Avnet; ComponentLink3URL: http://www.kemet.com/docfinder?Partnumber=C0603C225M9PACTU&src-supplier=Digi-Key; ComponentLink3Description: http://www.kemet.com/docfinder?Partnumber=C0603C225M9PACTU&src-supplier=Digi-Key; ComponentLink4URL: http://capacitoredge.kemet.com/capedge2/DataSheet?pn=C0603C225M9PAC7867&src-supplier=Avnet+Europe; ComponentLink4Description: http://capacitoredge.kemet.com/capedge2/DataSheet?pn=C0603C225M9PAC7867&src-supplier=Avnet+Europe
footprint CAP0603
pins: 1, 2

## C_0603_2.7nF
designator C?, comment 2.7nF
KEMET - C0603C272K5RACTU - SMD Multilayer Ceramic Capacitor, 2700 pF, 50 V, 0603 [1608 Metric], ± 10%, X7R, C Series KEMET; Voltage Rating: 50V; Supplier 1: Digi-Key; Supplier Part Number 1: 399-7890-1-ND; Manufacturer: KEMET; Manufacturer Part Number: C0603C272K5RACTU; RoHS: Yes; Category: Ceramic Capacitors; Stock 1: 37075; Pricing 1: 1=0.12000, 10=0.09000, 100=0.04030, 500=0.02876, 1000=0.02260 (USD); Mount: Surface Mount,PCB; Case/Package: 0603; Number of Pins: 2; Case Code (Metric): 1608; Case Code (Imperial): 0603; Dielectric Material: Ceramic; Min Operating Temperature: -55°C; Max Operating Temperature: 125°C; Capacitance: 2.7nF; Tolerance: 10%; Packaging: Tape and Reel; Voltage Rating (DC): 50V; Package Quantity: 1; Dielectric: X7R; Termination: SMD/SMT; Voltage: 50V; Length: 1.6mm; Height: 0.8mm; Width: 0.031inch; Thickness: 0.034inch; Lead Pitch: 0.7mm; Depth: 0.8mm; Radiation Hardening: No; REACH SVHC: No SVHC; ComponentLink1URL: https://datasheet.ciiva.com/18192/getdatasheetpartid-321287-18192955.pdf?src-supplier=Verical; ComponentLink1Description: https://datasheet.ciiva.com/18192/getdatasheetpartid-321287-18192955.pdf?src-supplier=Verical; ComponentLink2URL: https://datasheet.ciiva.com/7823/1633156-7823726.pdf?src-supplier=Element14; ComponentLink2Description: https://datasheet.ciiva.com/7823/1633156-7823726.pdf?src-supplier=Element14; ComponentLink3URL: https://datasheet.ciiva.com/7823/1633156-7823727.pdf?src-supplier=Element14; ComponentLink3Description: https://datasheet.ciiva.com/7823/1633156-7823727.pdf?src-supplier=Element14
footprint CAP0603
pins: 1, 2

## C_0603_4.7nF
designator C?, comment 4.7nF
CAP CER 4700PF 50V X5R 0603; Manufacturer: TDK; Manufacturer Part Number: CGA3E2X5R1H472K080AA; Tolerance: 10%; Supplier 1: Digi-Key; Supplier Part Number 1: 445-12519-1-ND; RoHS: Yes; Category: Ceramic Capacitors; Stock 1: 3870; Pricing 1: 1=0.11000, 10=0.07700, 100=0.03430, 500=0.02452, 1000=0.01926 (USD); Mount: Surface Mount; Case/Package: 0603; Case Code (Imperial): 0603; Case Code (Metric): 1608; Min Operating Temperature: -55°C; Max Operating Temperature: 85°C; Package Quantity: 1; Packaging: Tape and Reel; Capacitance: 4.7nF; Voltage Rating: 50V; Length: 0.063inch; Thickness: 0.035inch; Width: 0.031inch; Ratings: AEC-Q200; ComponentLink1URL: https://product.tdk.com/info/en/catalog/datasheets/mlcc_automotive_general_en.pdf?src-supplier=Digi-Key; ComponentLink1Description: https://product.tdk.com/info/en/catalog/datasheets/mlcc_automotive_general_en.pdf?src-supplier=Digi-Key; ComponentLink2URL: http://product.tdk.com/en/catalog/datasheets/mlcc_automotive_general_en.pdf?src-supplier=Avnet; ComponentLink2Description: http://product.tdk.com/en/catalog/datasheets/mlcc_automotive_general_en.pdf?src-supplier=Avnet
footprint CAP0603
pins: 1, 2

## C_0603_4.7uF
designator C?, comment 4.7uF
KEMET - C0603C475K9PACTU - SMD Multilayer Ceramic Capacitor, 4.7 µF, 6.3 V, 0603 [1608 Metric], ± 10%, X5R, C Series KEMET; Voltage Rating: 6.3V; Dissipation Factor: 5%; Supplier 1: Digi-Key; Supplier Part Number 1: 399-3482-1-ND; Manufacturer: KEMET; Manufacturer Part Number: C0603C475K9PACTU; RoHS: Yes; Category: Ceramic Capacitors; Stock 1: 1668841; Pricing 1: 1=0.19000, 10=0.13200, 100=0.06220, 500=0.04358, 1000=0.03608 (USD); Mount: Surface Mount,PCB; Case/Package: 0603; Number of Pins: 2; Case Code (Metric): 1608; Case Code (Imperial): 0603; Contact Plating: Tin,Matte; Dielectric Material: Ceramic; Min Operating Temperature: -55°C; Max Operating Temperature: 85°C; Package Quantity: 1; Capacitance: 4.7uF; Tolerance: 10%; Packaging: Tape and Reel; Voltage Rating (DC): 6.3V; Dielectric: X5R; Termination: SMD/SMT; Voltage: 6.3V; Length: 1.6mm; Height: 0.8mm; Width: 0.031inch; Thickness: 0.035inch; Lead Pitch: 0.7mm; Depth: 0.8mm; Radiation Hardening: No; REACH SVHC: No SVHC; Lead Free: Lead Free; ComponentLink1URL: https://datasheet.ciiva.com/145/docfinderpartnumber-c0603c475k9pactu-145072.pdf?src-supplier=Digi-Key; ComponentLink1Description: https://datasheet.ciiva.com/145/docfinderpartnumber-c0603c475k9pactu-145072.pdf?src-supplier=Digi-Key; ComponentLink2URL: https://datasheet.ciiva.com/7823/1732700-7823808.pdf?src-supplier=Element14; ComponentLink2Description: https://datasheet.ciiva.com/7823/1732700-7823808.pdf?src-supplier=Element14; ComponentLink3URL: https://datasheet.ciiva.com/28682/1789732-28682301.pdf?src-supplier=Element14; ComponentLink3Description: https://datasheet.ciiva.com/28682/1789732-28682301.pdf?src-supplier=Element14
footprint CAP0603
pins: 1, 2

## C_0805_1uF
designator C?, comment 1uF
CAP CER 1UF 10V X5R 0805; Manufacturer: Kyocera AVX; Manufacturer Part Number: 0805ZD105KAT2A; Tolerance: 10%; Supplier 1: Digi-Key; Supplier Part Number 1: 478-1412-1-ND; RoHS: Yes; Category: Ceramic Capacitors; Stock 1: 253; Pricing 1: 1=0.22000, 10=0.15200, 100=0.07690, 500=0.05262, 1000=0.04655 (USD); Mount: Surface Mount; Case/Package: 0805; Number of Pins: 2; Case Code (Metric): 2012; Case Code (Imperial): 0805; Min Operating Temperature: -55°C; Max Operating Temperature: 85°C; Capacitance: 1uF; Voltage Rating: 10V; Packaging: Tape and Reel; Package Quantity: 2000; Voltage Rating (DC): 10V; Dielectric: X5R; Termination: SMD/SMT; Length: 2.01mm; Height: 1.4mm; Width: 0.049inch; Thickness: 0.055inch; Depth: 1.25mm; Radiation Hardening: No; REACH SVHC: No SVHC; Lead Free: Lead Free; ComponentLink1URL: https://datasheet.ciiva.com/19467/1037155-19467690.pdf?src-supplier=Jameco; ComponentLink1Description: https://datasheet.ciiva.com/19467/1037155-19467690.pdf?src-supplier=Jameco; ComponentLink2URL: https://datasheet.ciiva.com/152/cx5r-152610.pdf?src-supplier=Digi-Key; ComponentLink2Description: https://datasheet.ciiva.com/152/cx5r-152610.pdf?src-supplier=Digi-Key; ComponentLink3URL: https://datasheet.ciiva.com/152/cx5r-152611.pdf?src-supplier=Digi-Key; ComponentLink3Description: https://datasheet.ciiva.com/152/cx5r-152611.pdf?src-supplier=Digi-Key; ComponentLink4URL: https://datasheet.ciiva.com/152/cx5r-152612.pdf?src-supplier=Digi-Key; ComponentLink4Description: https://datasheet.ciiva.com/152/cx5r-152612.pdf?src-supplier=Digi-Key; ComponentLink5URL: https://datasheet.ciiva.com/5424/cx5r-33896-5424501.pdf?src-supplier=Mouser; ComponentLink5Description: https://datasheet.ciiva.com/5424/cx5r-33896-5424501.pdf?src-supplier=Mouser; ComponentLink6URL: https://datasheet.ciiva.com/28586/1666675-28586229.pdf?src-supplier=Element14; ComponentLink6Description: https://datasheet.ciiva.com/28586/1666675-28586229.pdf?src-supplier=Element14; ComponentLink7URL: https://datasheet.ciiva.com/28586/1666675-28586885.pdf?src-supplier=Element14; ComponentLink7Description: https://datasheet.ciiva.com/28586/1666675-28586885.pdf?src-supplier=Element14; ComponentLink8URL: https://datasheet.ciiva.com/2988/cx5r-2988073.pdf?src-supplier=Avnet; ComponentLink8Description: https://datasheet.ciiva.com/2988/cx5r-2988073.pdf?src-supplier=Avnet; ComponentLink9URL: https://datasheet.ciiva.com/2988/cx5r-2988074.pdf?src-supplier=Avnet; ComponentLink9Description: https://datasheet.ciiva.com/2988/cx5r-2988074.pdf?src-supplier=Avnet; ComponentLink10URL: https://datasheet.ciiva.com/17494/cx5r-17494091.pdf?src-supplier=Avnet+Europe; ComponentLink10Description: https://datasheet.ciiva.com/17494/cx5r-17494091.pdf?src-supplier=Avnet+Europe
footprint CAP0805
pins: 1, 2

## C_0805_10uF
designator C?, comment 10uF
CAP CER 10UF 6.3V X5R 0805; Manufacturer: Samsung; Manufacturer Part Number: CL21A106KQFNFNE; Tolerance: 10%; Supplier 1: Digi-Key; Supplier Part Number 1: 1276-2898-1-ND; RoHS: Yes; Category: Ceramic Capacitors; Stock 1: 9636; Pricing 1: 1=0.15000, 10=0.10700, 100=0.05020, 500=0.03522, 1000=0.02916 (USD); Mount: Surface Mount; Case/Package: 0805; Case Code (Metric): 2012; Case Code (Imperial): 0805; Min Operating Temperature: -55°C; Max Operating Temperature: 85°C; Dielectric: X5R; Package Quantity: 1; Packaging: Tape and Reel; Capacitance: 10uF; Voltage Rating: 6.3V; Length: 0.079inch; Height: 1.25mm; Width: 0.049inch; Thickness: 0.053inch; Depth: 1.25mm; Radiation Hardening: No; ComponentLink1URL: https://datasheet.ciiva.com/25730/cl21a106kqfnfne-25730148.pdf?src-supplier=Digi-Key; ComponentLink1Description: https://datasheet.ciiva.com/25730/cl21a106kqfnfne-25730148.pdf?src-supplier=Digi-Key
footprint CAP0805
pins: 1, 2

## C_0805_39pF
designator C?, comment 39pF
CAP CER 39PF 50V C0G/NP0 0805; Manufacturer: Murata; Manufacturer Part Number: GQM2195C1H390JB01D; Tolerance: 5%; Dielectric: C0G; Temperature Coefficient: 30ppm/°C; Supplier 1: Digi-Key; Supplier Part Number 1: 490-3611-1-ND; RoHS: Yes; Category: Ceramic Capacitors; Stock 1: 6467; Pricing 1: 1=1.18000, 10=0.89300, 100=0.63910, 500=0.49480, 1000=0.42608 (USD); Mount: Surface Mount; Case/Package: 0805; Case Code (Imperial): 0805; Case Code (Metric): 2012; Min Operating Temperature: -55°C; Max Operating Temperature: 125°C; Capacitance: 39pF; Voltage Rating: 50V; Voltage Rating (DC): 50V; Packaging: Tape and Reel; Package Quantity: 1; Termination: SMD/SMT; Voltage: 50V; Length: 2mm; Height: 0.85mm; Width: 1.25mm; Thickness: 0.037inch; Depth: 1.25mm; Radiation Hardening: No; Lead Free: Lead Free; ComponentLink1URL: https://datasheet.ciiva.com/11786/0900766b80936815-11786483.pdf?src-supplier=RSComponents; ComponentLink1Description: https://datasheet.ciiva.com/11786/0900766b80936815-11786483.pdf?src-supplier=RSComponents; ComponentLink2URL: https://datasheet.ciiva.com/142/partnumbering-e-01-142395.pdf?src-supplier=Digi-Key; ComponentLink2Description: https://datasheet.ciiva.com/142/partnumbering-e-01-142395.pdf?src-supplier=Digi-Key; ComponentLink3URL: https://datasheet.ciiva.com/142/partnumbering-e-01-142396.pdf?src-supplier=Digi-Key; ComponentLink3Description: https://datasheet.ciiva.com/142/partnumbering-e-01-142396.pdf?src-supplier=Digi-Key; ComponentLink4URL: https://datasheet.ciiva.com/142/partnumbering-e-01-142397.pdf?src-supplier=Digi-Key; ComponentLink4Description: https://datasheet.ciiva.com/142/partnumbering-e-01-142397.pdf?src-supplier=Digi-Key
footprint CAP0805
pins: 1, 2

## C_TANT_10uF
designator C?, comment 10uF
CAP TANT 10UF 10% 16V 2312; Manufacturer: Kyocera AVX; Manufacturer Part Number: TAJC106K016RNJ; Dielectric Material: Tantalum; ESR (Equivalent Series Resistance): 2R; Leakage Current: 1.6uA; Dissipation Factor: 6%; Polarity: Polar; Q Factor: 6; Supplier 1: Digi-Key; Supplier Part Number 1: 478-1698-1-ND; RoHS: Yes; Category: Tantalum Capacitors; Stock 1: 740; Pricing 1: 1=0.63000, 10=0.44800, 100=0.29520 (USD); Mount: Surface Mount,PCB; Case/Package: Molded; Number of Pins: 2; Case Code (Metric): 6032; Case Code (Imperial): 2412; Min Operating Temperature: -55°C; Max Operating Temperature: 125°C; Capacitance: 10uF; Voltage Rating: 16V; Tolerance: 10%; Packaging: Tape and Reel; Termination: SMD/SMT; Package Quantity: 500; Voltage Rating (DC): 16V; Features: General Purpose; Voltage: 16V; Length: 6mm; Height: 2.6mm; Width: 3.2mm; Height - Seated (Max): 0.11inch; Depth: 3.2mm; Radiation Hardening: No; Lead Free: Lead Free; REACH SVHC: No SVHC; ComponentLink1URL: https://datasheet.ciiva.com/11793/0900766b80ccdc61-11793344.pdf?src-supplier=RSComponents; ComponentLink1Description: https://datasheet.ciiva.com/11793/0900766b80ccdc61-11793344.pdf?src-supplier=RSComponents; ComponentLink2URL: https://datasheet.ciiva.com/26341/559477-da-01-en-tacc-c-6-0-mm-x-3-2-mm-x-2-6-mm-10-uf-26341812.pdf?src-supplier=Conrad; ComponentLink2Description: https://datasheet.ciiva.com/26341/559477-da-01-en-tacc-c-6-0-mm-x-3-2-mm-x-2-6-mm-10-uf-26341812.pdf?src-supplier=Conrad; ComponentLink3URL: https://datasheet.ciiva.com/263/taj-263648.pdf?src-supplier=Digi-Key; ComponentLink3Description: https://datasheet.ciiva.com/263/taj-263648.pdf?src-supplier=Digi-Key; ComponentLink4URL: https://datasheet.ciiva.com/7730/taj-7730981.pdf?src-supplier=Element14; ComponentLink4Description: https://datasheet.ciiva.com/7730/taj-7730981.pdf?src-supplier=Element14; ComponentLink5URL: https://datasheet.ciiva.com/14605/70001050-14605654.pdf?src-supplier=Allied+Electronics; ComponentLink5Description: https://datasheet.ciiva.com/14605/70001050-14605654.pdf?src-supplier=Allied+Electronics; ComponentLink6URL: https://datasheet.ciiva.com/5936/13070-5936855.pdf?src-supplier=Farnell; ComponentLink6Description: https://datasheet.ciiva.com/5936/13070-5936855.pdf?src-supplier=Farnell; ComponentLink7URL: https://datasheet.ciiva.com/12911/taj-27497-12911160.pdf?src-supplier=Mouser; ComponentLink7Description: https://datasheet.ciiva.com/12911/taj-27497-12911160.pdf?src-supplier=Mouser; ComponentLink8URL: https://datasheet.ciiva.com/5937/taj-5937097.pdf?src-supplier=Farnell; ComponentLink8Description: https://datasheet.ciiva.com/5937/taj-5937097.pdf?src-supplier=Farnell; ComponentLink9URL: https://datasheet.ciiva.com/15163/getdatasheetpartid-120898-15163421.pdf?src-supplier=Verical; ComponentLink9Description: https://datasheet.ciiva.com/15163/getdatasheetpartid-120898-15163421.pdf?src-supplier=Verical; ComponentLink10URL: https://datasheet.ciiva.com/263/taj-263646.pdf?src-supplier=Digi-Key; ComponentLink10Description: https://datasheet.ciiva.com/263/taj-263646.pdf?src-supplier=Digi-Key; ComponentLink11URL: https://datasheet.ciiva.com/16492/taj-16492894.pdf?src-supplier=Future+Electronics; ComponentLink11Description: https://datasheet.ciiva.com/16492/taj-16492894.pdf?src-supplier=Future+Electronics; ComponentLink12URL: https://datasheet.ciiva.com/16632/taj-16632686.pdf?src-supplier=Avnet+Europe; ComponentLink12Description: https://datasheet.ciiva.com/16632/taj-16632686.pdf?src-supplier=Avnet+Europe; ComponentLink13URL: https://datasheet.ciiva.com/263/taj-263647.pdf?src-supplier=Digi-Key; ComponentLink13Description: https://datasheet.ciiva.com/263/taj-263647.pdf?src-supplier=Digi-Key
footprint C_6032 (Molded Capacitor, 2-Leads, Body 6.20x3.4mm)
pins: 1 +, 2 -

## DIODE_SCHOTTKY
designator V?, comment BAT54KFILM
Diode Small Signal Schottky 40V 0.3A 2-Pin SOD-523 T/R; Manufacturer: STMicroelectronics; Forward Current: 300mA; Reverse Recovery Time: 5ns; Peak Non-Repetitive Surge Current: 1A; Element Configuration: Single; Forward Voltage: 900mV; Peak Reverse Current: 100uA; Max Reverse Leakage Current: 1uA; Polarity: Standard; Capacitance: 7pF; Supplier 1: Digi-Key; Supplier Part Number 1: 497-5561-1-ND; Manufacturer Part Number: BAT54KFILM; RoHS: Yes; Category: Rectifier Diodes; Stock 1: 38839; Pricing 1: 1=0.37000, 10=0.27300, 25=0.23880, 100=0.12960, 250=0.12888, 500=0.10572, 1000=0.07843 (USD); Mount: Surface Mount; Number of Pins: 2; Contact Plating: Tin,Matte; Min Operating Temperature: -40°C; Max Operating Temperature: 150°C; Max Repetitive Reverse Voltage (Vrrm): 40V; Package Quantity: 1; Packaging: Tape and Reel; Max Surge Current: 1A; Recovery Time: 5ns; Average Rectified Current: 300mA; Max Forward Surge Current (Ifsm): 1A; Voltage Rating (DC): 40V; Current Rating: 300mA; Output Current: 300mA; Max Reverse Voltage (DC): 40V; Length: 1.2mm; Height: 0.6mm; Width: 0.8mm; Radiation Hardening: No; REACH SVHC: No SVHC; Lead Free: Lead Free; ComponentLink1URL: https://datasheet.ciiva.com/915/cd00001322-915600.pdf?src-supplier=Digi-Key; ComponentLink1Description: https://datasheet.ciiva.com/915/cd00001322-915600.pdf?src-supplier=Digi-Key; ComponentLink2URL: https://datasheet.ciiva.com/915/cd00001322-915598.pdf?src-supplier=Digi-Key; ComponentLink2Description: https://datasheet.ciiva.com/915/cd00001322-915598.pdf?src-supplier=Digi-Key; ComponentLink3URL: https://datasheet.ciiva.com/915/cd00001322-915599.pdf?src-supplier=Digi-Key; ComponentLink3Description: https://datasheet.ciiva.com/915/cd00001322-915599.pdf?src-supplier=Digi-Key
footprint SOD523
pins: 1 K, 2 A

## FB_0603_120R@100MHz
designator L?, comment BLM18PG121SN1D
MURATA - BLM18PG121SN1D - FERRITE, BEAD, 0603, 0.05OHM, 2A; Material: Steel,Ferrite; Tolerance: 25%; Impedance: 120R; DC Resistance (DCR): 50mR; Number of Lines: 1; Test Frequency: 100MHz; Shielding: Unshielded; Supplier 1: Digi-Key; Supplier Part Number 1: 490-1037-1-ND; Manufacturer: Murata; Manufacturer Part Number: BLM18PG121SN1D; RoHS: Yes; Category: Inductors; Stock 1: 588284; Pricing 1: 1=0.10000, 10=0.07600, 25=0.06840, 50=0.05000, 100=0.04330, 250=0.03416, 500=0.02884, 1000=0.02429 (USD); Case/Package: 0603; Number of Pins: 2; Core Material: Ferrite; Case Code (Metric): 1608; Case Code (Imperial): 0603; Min Operating Temperature: -55°C; Max Operating Temperature: 125°C; Max DC Current: 2A; Package Quantity: 1; Max Current Rating: 2A; Packaging: Tape and Reel; Current Rating: 2A; Termination: SMD/SMT; DC Current: 2A; Frequency: 100MHz; Number of Circuits: 1; Length: 1.6mm; Height: 0.8mm; Width: 0.8mm; Depth: 0.8mm; Radiation Hardening: No; REACH SVHC: No SVHC; Lead Free: Lead Free; ComponentLink1URL: https://datasheet.ciiva.com/5709/1740433-5709171.pdf?src-supplier=Farnell; ComponentLink1Description: https://datasheet.ciiva.com/5709/1740433-5709171.pdf?src-supplier=Farnell; ComponentLink2URL: https://datasheet.ciiva.com/3854/5emiapbde-1-3854039.pdf?src-supplier=Arrow; ComponentLink2Description: https://datasheet.ciiva.com/3854/5emiapbde-1-3854039.pdf?src-supplier=Arrow; ComponentLink3URL: https://datasheet.ciiva.com/11799/0900766b81275ca5-11799546.pdf?src-supplier=RSComponents; ComponentLink3Description: https://datasheet.ciiva.com/11799/0900766b81275ca5-11799546.pdf?src-supplier=RSComponents; ComponentLink4URL: https://datasheet.ciiva.com/19454/1845013-19454715.pdf?src-supplier=Jameco; ComponentLink4Description: https://datasheet.ciiva.com/19454/1845013-19454715.pdf?src-supplier=Jameco; ComponentLink5URL: https://datasheet.ciiva.com/29347/442365-da-01-en-chip-drossel-0603-120r-2000ma-1-6x0-8mm-29347911.pdf?src-supplier=Conrad; ComponentLink5Description: https://datasheet.ciiva.com/29347/442365-da-01-en-chip-drossel-0603-120r-2000ma-1-6x0-8mm-29347911.pdf?src-supplier=Conrad; ComponentLink6URL: https://datasheet.ciiva.com/3081/l0110s0100blm18p-3081632.pdf?src-supplier=Avnet; ComponentLink6Description: https://datasheet.ciiva.com/3081/l0110s0100blm18p-3081632.pdf?src-supplier=Avnet; ComponentLink7URL: https://datasheet.ciiva.com/8021/1740433-8021493.pdf?src-supplier=Element14; ComponentLink7Description: https://datasheet.ciiva.com/8021/1740433-8021493.pdf?src-supplier=Element14; ComponentLink8URL: https://datasheet.ciiva.com/6212/l0110s0100blm18p-6212502.pdf?src-supplier=Digi-Key; ComponentLink8Description: https://datasheet.ciiva.com/6212/l0110s0100blm18p-6212502.pdf?src-supplier=Digi-Key; ComponentLink9URL: https://datasheet.ciiva.com/8021/1740433-8021494.pdf?src-supplier=Element14; ComponentLink9Description: https://datasheet.ciiva.com/8021/1740433-8021494.pdf?src-supplier=Element14; ComponentLink10URL: https://datasheet.ciiva.com/6212/l0110s0100blm18p-6212504.pdf?src-supplier=Digi-Key; ComponentLink10Description: https://datasheet.ciiva.com/6212/l0110s0100blm18p-6212504.pdf?src-supplier=Digi-Key; ComponentLink11URL: https://datasheet.ciiva.com/14122/blm-series-eng-tds-14122905.pdf?src-supplier=Distrelec; ComponentLink11Description: https://datasheet.ciiva.com/14122/blm-series-eng-tds-14122905.pdf?src-supplier=Distrelec; ComponentLink12URL: https://datasheet.ciiva.com/25903/l0110s0100blm18p-25903483.pdf?src-supplier=Avnet+Europe; ComponentLink12Description: https://datasheet.ciiva.com/25903/l0110s0100blm18p-25903483.pdf?src-supplier=Avnet+Europe; ComponentLink13URL: https://datasheet.ciiva.com/41449/001172297-da-01-en-drossel-0603-120r-1-6x0-8mm-4000st-41449659.pdf?src-supplier=Conrad; ComponentLink13Description: https://datasheet.ciiva.com/41449/001172297-da-01-en-drossel-0603-120r-1-6x0-8mm-4000st-41449659.pdf?src-supplier=Conrad
footprint 0603_COIL
pins: 1, 2

## FB_0603_600R@100MHz 
designator L?, comment MH1608-601Y
BOURNS - MH1608-601Y - Ferrite Bead, 0603 [1608 Metric], 600 ohm, 1 A, MH Series, 0.2 ohm, ± 25%; Current Rating: 3A; Impedance: 600R; Number of Lines: 1; Max Current Rating: 1A; DC Resistance (DCR): 200mR; Test Frequency: 100MHz; Supplier 1: Digi-Key; Supplier Part Number 1: MH1608-601YCT-ND; Manufacturer: Bourns; Manufacturer Part Number: MH1608-601Y; RoHS: Yes; Category: Ferrite Beads and Chips; Stock 1: 35166; Pricing 1: 1=0.10000, 10=0.07300, 25=0.06600, 50=0.05940, 100=0.04360, 250=0.03168, 500=0.02904, 1000=0.02508 (USD); Mount: Surface Mount; Case/Package: 0603; Core Material: Ferrite; Case Code (Metric): 1608; Case Code (Imperial): 0603; Min Operating Temperature: -55°C; Max Operating Temperature: 125°C; Package Quantity: 1; Packaging: Tape and Reel; Tolerance: 25%; Max DC Current: 1A; Termination: SMD/SMT; DC Current: 1A; Military Standard: Not; Length: 0.063inch; Height: 0.039inch; Width: 0.031inch; Depth: 1mm; Radiation Hardening: No; REACH SVHC: No SVHC; ComponentLink1URL: https://datasheet.ciiva.com/22632/1727902-22632581.pdf?src-supplier=Element14; ComponentLink1Description: https://datasheet.ciiva.com/22632/1727902-22632581.pdf?src-supplier=Element14; ComponentLink2URL: https://datasheet.ciiva.com/4939/mh-69602-4939639.pdf?src-supplier=Mouser; ComponentLink2Description: https://datasheet.ciiva.com/4939/mh-69602-4939639.pdf?src-supplier=Mouser; ComponentLink3URL: https://datasheet.ciiva.com/15160/getdatasheetpartid-116599-15160410.pdf?src-supplier=Verical; ComponentLink3Description: https://datasheet.ciiva.com/15160/getdatasheetpartid-116599-15160410.pdf?src-supplier=Verical
footprint 0603_COIL
pins: 1, 2